# EAGLE library part 662016236022 (library Wuerth_Elektronik_eiCan_08_Micro_Power_Connectors)
WR-MPC3 3.00mm Male Dual Row SMT Angled Header with Plastic Pegs, 16 Pins
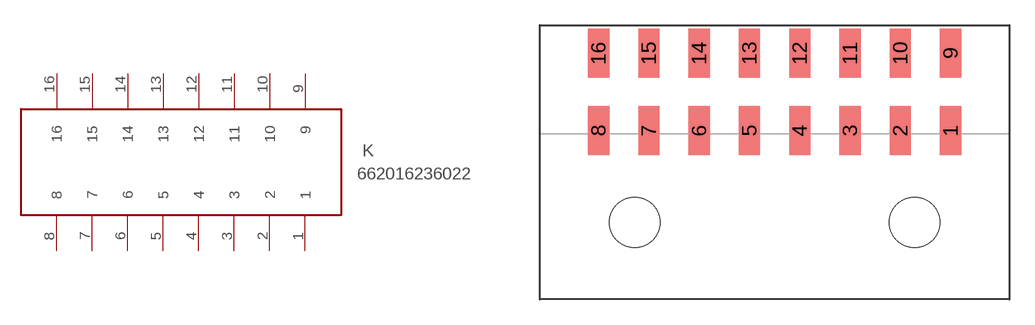
[diagram p45: symbol with the pads of 662016236022; footprint 662016236022]

Designator prefix K

## 662016236022  [662016236022]
1  1
2  2
3  3
4  4
5  5
6  6
7  7
8  8
9  9
10  10
11  11
12  12
13  13
14  14
15  15
16  16

## Footprint 662016236022 (pad centres in mm)
WR-MPC3 3.00mm Male Dual Row SMT Angled Header with Plastic Pegs, 16 Pins
smd 1.27 x 2.92: 1 0,-2.31; 2 -3,-2.31; 3 -6,-2.31; 4 -9,-2.31; 5 -12,-2.31; 6 -15,-2.31; 7 -18,-2.31; 8 -21,-2.31; 9 0,2.31; 10 -3,2.31; 11 -6,2.31; 12 -9,2.31; 13 -12,2.31; 14 -15,2.31; 15 -18,2.31; 16 -21,2.31
hole 3 at -2.16,-7.79
hole 3 at -18.84,-7.79